# EAGLE library part HDR_2MM_1X32 (library sgqparts)
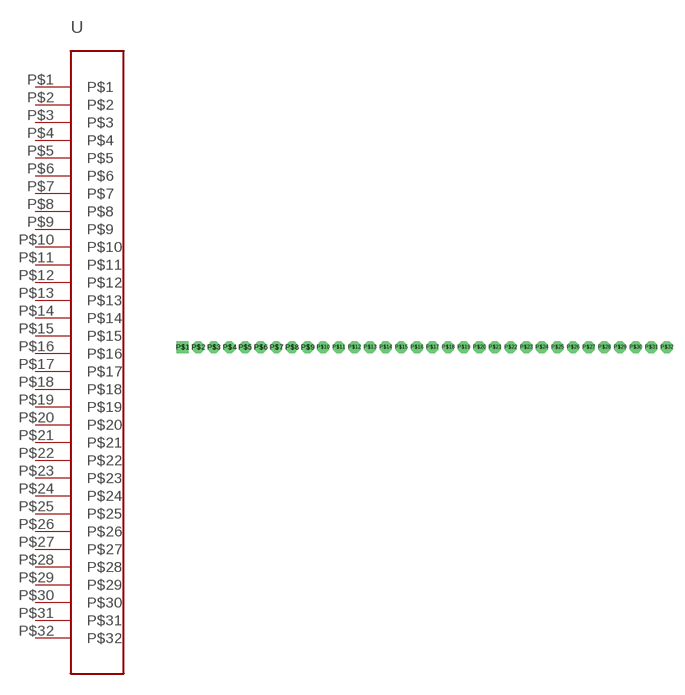
[diagram p3: symbol with the pads of HDR_2MM_1X32; footprint HDR_2MM_1X32]

Designator prefix -

## HDR_2MM_1X32  [HDR_2MM_1X32]
P$1  P$1
P$2  P$2
P$3  P$3
P$4  P$4
P$5  P$5
P$6  P$6
P$7  P$7
P$8  P$8
P$9  P$9
P$10  P$10
P$11  P$11
P$12  P$12
P$13  P$13
P$14  P$14
P$15  P$15
P$16  P$16
P$17  P$17
P$18  P$18
P$19  P$19
P$20  P$20
P$21  P$21
P$22  P$22
P$23  P$23
P$24  P$24
P$25  P$25
P$26  P$26
P$27  P$27
P$28  P$28
P$29  P$29
P$30  P$30
P$31  P$31
P$32  P$32

## Footprint HDR_2MM_1X32 (pad centres in mm)
drill 1 square: P$1 -30,0
drill 1 octagon: P$2 -28,0; P$3 -26,0; P$4 -24,0; P$5 -22,0; P$6 -20,0; P$7 -18,0; P$8 -16,0; P$9 -14,0; P$10 -12,0; P$11 -10,0; P$12 -8,0; P$13 -6,0; P$14 -4,0; P$15 -2,0; P$16 0,0; P$17 2,0; P$18 4,0; P$19 6,0; P$20 8,0; P$21 10,0; P$22 12,0; P$23 14,0; P$24 16,0; P$25 18,0; P$26 20,0; P$27 22,0; P$28 24,0; P$29 26,0; P$30 28,0; P$31 30,0; P$32 32,0